# Altium schematic symbol library MAX6325CSA 2.5V Ref.SchLib: 1 symbol
Pins are listed as number, name and electrical type; pins without a type are passive.

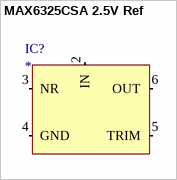
[diagram p0: symbol MAX6325CSA 2.5V Ref]

## MAX6325CSA 2.5V Ref
designator IC?
pins: 2 IN (in), 3 NR (in), 4 GND (in), 5 TRIM (in), 6 OUT (in)